# Altium integrated library Weidmueller_OMNIMATE_Housing.IntLib: 20 symbols
Pins are listed as number, name and electrical type; pins without a type are passive.

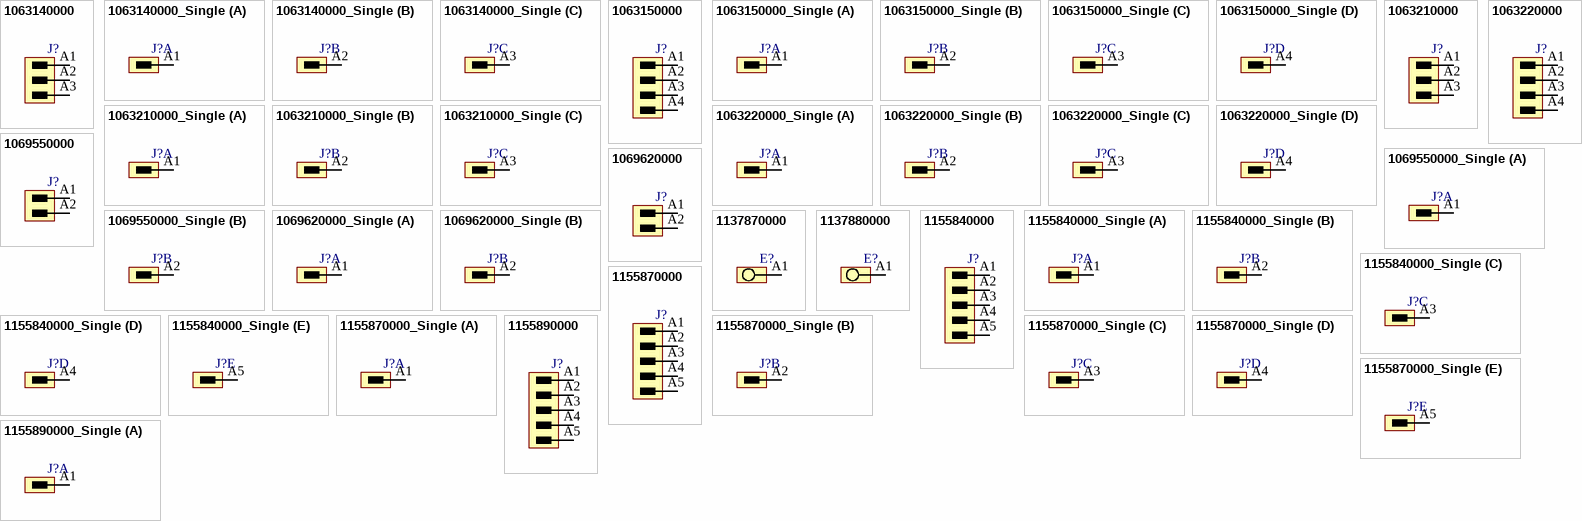
[diagram p0: symbols 1063140000 to 1155890000_Single]

## 1063140000
designator J?
OMNIMATE Housing - series CH20M; PartNumber: 1063140000; Manufacturer: Weidmueller; Short_text_for_material: SHL-SMT 5.00/03GR 1.5BX; Mounting_onto_the_PCB: Reflow solder connection; Pitch_mm: 5 mm; Pitch_inch: 0.197 inch; No_of_poles: 3; Outgoing_elbow: 90°; Solder_pin_length_mm: 1.5 mm; Contact_material: Cu-Leg; Contact_surface: tinned; Insulating_material: LCP; UL_94_flammability_rating: V-0; Rated_voltage_for_surge_voltage_class_pollution_degree_II_2: 400 V; Rated_voltage_use_group_B_UL_1059: 300 V; Rated_current_use_group_B_UL_1059: 9 A; PackageReference: SHL-SMT_5_00GR_03; Colour: Black; Packaging: Box; Qty: 120 PCS; Revision: V1; ComponentLink1Description: Manufacturer URL; ComponentLink1URL: http://www.weidmueller.com/; ComponentLink2Description: URL Link1; ComponentLink2URL: http://catalog.weidmueller.com/catalog/Start.do?localeId=en&ObjectID=1063140000
footprint SHL-SMT_5_00GR_03 (OMNIMATE Housing - Serie CH20M  SHL-SMT 5.00/03)
pins: A1, A2, A3

## 1063140000_Single
designator J?
OMNIMATE Housing - series CH20M; PartNumber: 1063140000; Manufacturer: Weidmueller; Short_text_for_material: SHL-SMT 5.00/03GR 1.5BX; Mounting_onto_the_PCB: Reflow solder connection; Pitch_mm: 5 mm; Pitch_inch: 0.197 inch; No_of_poles: 3; Outgoing_elbow: 90°; Solder_pin_length_mm: 1.5 mm; Contact_material: Cu-Leg; Contact_surface: tinned; Insulating_material: LCP; UL_94_flammability_rating: V-0; Rated_voltage_for_surge_voltage_class_pollution_degree_II_2: 400 V; Rated_voltage_use_group_B_UL_1059: 300 V; Rated_current_use_group_B_UL_1059: 9 A; PackageReference: SHL-SMT_5_00GR_03; Colour: Black; Packaging: Box; Qty: 120 PCS; Revision: V1; ComponentLink1Description: Manufacturer URL; ComponentLink1URL: http://www.weidmueller.com/; ComponentLink2Description: URL Link1; ComponentLink2URL: http://catalog.weidmueller.com/catalog/Start.do?localeId=en&ObjectID=1063140000
footprint SHL-SMT_5_00GR_03 (OMNIMATE Housing - Serie CH20M  SHL-SMT 5.00/03)
part A pins: A1
part B pins: A2
part C pins: A3

## 1063150000
designator J?
OMNIMATE Housing - series CH20M; PartNumber: 1063150000; Manufacturer: Weidmueller; Short_text_for_material: SHL-SMT 5.00/04GR 1.5BX; Mounting_onto_the_PCB: Reflow solder connection; Pitch_mm: 5 mm; Pitch_inch: 0.197 inch; No_of_poles: 4; Outgoing_elbow: 90°; Solder_pin_length_mm: 1.5 mm; Contact_material: Cu-Leg; Contact_surface: tinned; Insulating_material: LCP; UL_94_flammability_rating: V-0; Rated_voltage_for_surge_voltage_class_pollution_degree_II_2: 400 V; Rated_voltage_use_group_B_UL_1059: 300 V; Rated_current_use_group_B_UL_1059: 9 A; PackageReference: SHL-SMT_5_00GR_04; Colour: Black; Packaging: Box; Qty: 108 PCS; Revision: V1; ComponentLink1Description: Manufacturer URL; ComponentLink1URL: http://www.weidmueller.com/; ComponentLink2Description: URL Link1; ComponentLink2URL: http://catalog.weidmueller.com/catalog/Start.do?localeId=en&ObjectID=1063150000
footprint SHL-SMT_5_00GR_04 (OMNIMATE Housing - Serie CH20M  SHL-SMT 5.00/04GR 1.5)
pins: A1, A2, A3, A4

## 1063150000_Single
designator J?
OMNIMATE Housing - series CH20M; PartNumber: 1063150000; Manufacturer: Weidmueller; Short_text_for_material: SHL-SMT 5.00/04GR 1.5BX; Mounting_onto_the_PCB: Reflow solder connection; Pitch_mm: 5 mm; Pitch_inch: 0.197 inch; No_of_poles: 4; Outgoing_elbow: 90°; Solder_pin_length_mm: 1.5 mm; Contact_material: Cu-Leg; Contact_surface: tinned; Insulating_material: LCP; UL_94_flammability_rating: V-0; Rated_voltage_for_surge_voltage_class_pollution_degree_II_2: 400 V; Rated_voltage_use_group_B_UL_1059: 300 V; Rated_current_use_group_B_UL_1059: 9 A; PackageReference: SHL-SMT_5_00GR_04; Colour: Black; Packaging: Box; Qty: 108 PCS; Revision: V1; ComponentLink1Description: Manufacturer URL; ComponentLink1URL: http://www.weidmueller.com/; ComponentLink2Description: URL Link1; ComponentLink2URL: http://catalog.weidmueller.com/catalog/Start.do?localeId=en&ObjectID=1063150000
footprint SHL-SMT_5_00GR_04 (OMNIMATE Housing - Serie CH20M  SHL-SMT 5.00/04GR 1.5)
part A pins: A1
part B pins: A2
part C pins: A3
part D pins: A4

## 1063210000
designator J?
OMNIMATE Housing - series CH20M; PartNumber: 1063210000; Manufacturer: Weidmueller; Short_text_for_material: SHL-SMT 5.00/03GL 1.5BX; Mounting_onto_the_PCB: Reflow solder connection; Pitch_mm: 5 mm; Pitch_inch: 0.197 inch; No_of_poles: 3; Outgoing_elbow: 90°; Solder_pin_length_mm: 1.5 mm; Contact_material: Cu-Leg; Contact_surface: tinned; Insulating_material: LCP; UL_94_flammability_rating: V-0; Rated_voltage_for_surge_voltage_class_pollution_degree_II_2: 400 V; Rated_voltage_use_group_B_UL_1059: 300 V; Rated_current_use_group_B_UL_1059: 9 A; PackageReference: SHL-SMT_5_00GL_03; Colour: Black; Packaging: Box; Qty: 120 PCS; Revision: V1; ComponentLink1Description: Manufacturer URL; ComponentLink1URL: http://www.weidmueller.com/; ComponentLink2Description: URL Link1; ComponentLink2URL: http://catalog.weidmueller.com/catalog/Start.do?localeId=en&ObjectID=1063210000
footprint SHL-SMT_5_00GL_03 (OMNIMATE Housing - Serie CH20M  SHL-SMT 5.00/03)
pins: A1, A2, A3

## 1063210000_Single
designator J?
OMNIMATE Housing - series CH20M; PartNumber: 1063210000; Manufacturer: Weidmueller; Short_text_for_material: SHL-SMT 5.00/03GL 1.5BX; Mounting_onto_the_PCB: Reflow solder connection; Pitch_mm: 5 mm; Pitch_inch: 0.197 inch; No_of_poles: 3; Outgoing_elbow: 90°; Solder_pin_length_mm: 1.5 mm; Contact_material: Cu-Leg; Contact_surface: tinned; Insulating_material: LCP; UL_94_flammability_rating: V-0; Rated_voltage_for_surge_voltage_class_pollution_degree_II_2: 400 V; Rated_voltage_use_group_B_UL_1059: 300 V; Rated_current_use_group_B_UL_1059: 9 A; PackageReference: SHL-SMT_5_00GL_03; Colour: Black; Packaging: Box; Qty: 120 PCS; Revision: V1; ComponentLink1Description: Manufacturer URL; ComponentLink1URL: http://www.weidmueller.com/; ComponentLink2Description: URL Link1; ComponentLink2URL: http://catalog.weidmueller.com/catalog/Start.do?localeId=en&ObjectID=1063210000
footprint SHL-SMT_5_00GL_03 (OMNIMATE Housing - Serie CH20M  SHL-SMT 5.00/03)
part A pins: A1
part B pins: A2
part C pins: A3

## 1063220000
designator J?
OMNIMATE Housing - series CH20M; PartNumber: 1063220000; Manufacturer: Weidmueller; Short_text_for_material: SHL-SMT 5.00/04GL 1.5BX; Mounting_onto_the_PCB: Reflow solder connection; Pitch_mm: 5 mm; Pitch_inch: 0.197 inch; No_of_poles: 4; Outgoing_elbow: 90°; Solder_pin_length_mm: 1.5 mm; Contact_material: Cu-Leg; Contact_surface: tinned; Insulating_material: LCP; UL_94_flammability_rating: V-0; Rated_voltage_for_surge_voltage_class_pollution_degree_II_2: 400 V; Rated_voltage_use_group_B_UL_1059: 300 V; Rated_current_use_group_B_UL_1059: 9 A; PackageReference: SHL-SMT_5_00GL_04; Colour: Black; Packaging: Box; Qty: 108 PCS; Revision: V1; ComponentLink1Description: Manufacturer URL; ComponentLink1URL: http://www.weidmueller.com/; ComponentLink2Description: URL Link1; ComponentLink2URL: http://catalog.weidmueller.com/catalog/Start.do?localeId=en&ObjectID=1063220000
footprint SHL-SMT_5_00GL_04 (OMNIMATE Housing - Serie CH20M  SHL-SMT 5.00/04GL 1.5)
pins: A1, A2, A3, A4

## 1063220000_Single
designator J?
OMNIMATE Housing - series CH20M; PartNumber: 1063220000; Manufacturer: Weidmueller; Short_text_for_material: SHL-SMT 5.00/04GL 1.5BX; Mounting_onto_the_PCB: Reflow solder connection; Pitch_mm: 5 mm; Pitch_inch: 0.197 inch; No_of_poles: 4; Outgoing_elbow: 90°; Solder_pin_length_mm: 1.5 mm; Contact_material: Cu-Leg; Contact_surface: tinned; Insulating_material: LCP; UL_94_flammability_rating: V-0; Rated_voltage_for_surge_voltage_class_pollution_degree_II_2: 400 V; Rated_voltage_use_group_B_UL_1059: 300 V; Rated_current_use_group_B_UL_1059: 9 A; PackageReference: SHL-SMT_5_00GL_04; Colour: Black; Packaging: Box; Qty: 108 PCS; Revision: V1; ComponentLink1Description: Manufacturer URL; ComponentLink1URL: http://www.weidmueller.com/; ComponentLink2Description: URL Link1; ComponentLink2URL: http://catalog.weidmueller.com/catalog/Start.do?localeId=en&ObjectID=1063220000
footprint SHL-SMT_5_00GL_04 (OMNIMATE Housing - Serie CH20M  SHL-SMT 5.00/04GL 1.5)
part A pins: A1
part B pins: A2
part C pins: A3
part D pins: A4

## 1069550000
designator J?
OMNIMATE Housing - series CH20M; PartNumber: 1069550000; Manufacturer: Weidmueller; Short_text_for_material: SHL-SMT 5.00/02GR 1.5BX; Mounting_onto_the_PCB: Reflow solder connection; Pitch_mm: 5 mm; Pitch_inch: 0.197 inch; No_of_poles: 2; Outgoing_elbow: 90°; Solder_pin_length_mm: 4.2 mm; Contact_material: Cu-Leg; Contact_surface: tinned; Insulating_material: LCP; UL_94_flammability_rating: V-0; Rated_voltage_for_surge_voltage_class_pollution_degree_II_2: 400 V; Rated_voltage_use_group_B_UL_1059: 300 V; Rated_current_use_group_B_UL_1059: 9 A; PackageReference: SHL-SMT_5_00GR_02; Colour: Black; Packaging: Box; Qty: 156 PCS; Revision: V1; ComponentLink1Description: Manufacturer URL; ComponentLink1URL: http://www.weidmueller.com/; ComponentLink2Description: URL Link1; ComponentLink2URL: http://catalog.weidmueller.com/catalog/Start.do?localeId=en&ObjectID=1069550000
footprint SHL-SMT_5_00GR_02 (OMNIMATE Housing - Serie CH20M  SHL-SMT 5.00/02GR)
pins: A1, A2

## 1069550000_Single
designator J?
OMNIMATE Housing - series CH20M; PartNumber: 1069550000; Manufacturer: Weidmueller; Short_text_for_material: SHL-SMT 5.00/02GR 1.5BX; Mounting_onto_the_PCB: Reflow solder connection; Pitch_mm: 5 mm; Pitch_inch: 0.197 inch; No_of_poles: 2; Outgoing_elbow: 90°; Solder_pin_length_mm: 4.2 mm; Contact_material: Cu-Leg; Contact_surface: tinned; Insulating_material: LCP; UL_94_flammability_rating: V-0; Rated_voltage_for_surge_voltage_class_pollution_degree_II_2: 400 V; Rated_voltage_use_group_B_UL_1059: 300 V; Rated_current_use_group_B_UL_1059: 9 A; PackageReference: SHL-SMT_5_00GR_02; Colour: Black; Packaging: Box; Qty: 156 PCS; Revision: V1; ComponentLink1Description: Manufacturer URL; ComponentLink1URL: http://www.weidmueller.com/; ComponentLink2Description: URL Link1; ComponentLink2URL: http://catalog.weidmueller.com/catalog/Start.do?localeId=en&ObjectID=1069550000
footprint SHL-SMT_5_00GR_02 (OMNIMATE Housing - Serie CH20M  SHL-SMT 5.00/02GR)
part A pins: A1
part B pins: A2

## 1069620000
designator J?
OMNIMATE Housing - series CH20M; PartNumber: 1069620000; Manufacturer: Weidmueller; Short_text_for_material: SHL-SMT 5.00/02GL 1.5BX; Mounting_onto_the_PCB: Reflow solder connection; Pitch_mm: 5 mm; Pitch_inch: 0.197 inch; No_of_poles: 2; Outgoing_elbow: 90°; Solder_pin_length_mm: 4.2 mm; Contact_material: Cu-Leg; Contact_surface: tinned; Insulating_material: LCP; UL_94_flammability_rating: V-0; Rated_voltage_for_surge_voltage_class_pollution_degree_II_2: 400 V; Rated_voltage_use_group_B_UL_1059: 300 V; Rated_current_use_group_B_UL_1059: 9 A; PackageReference: SHL-SMT_5_00GL_02; Colour: Black; Packaging: Box; Qty: 156 PCS; Revision: V1; ComponentLink1Description: Manufacturer URL; ComponentLink1URL: http://www.weidmueller.com/; ComponentLink2Description: URL Link1; ComponentLink2URL: http://catalog.weidmueller.com/catalog/Start.do?localeId=en&ObjectID=1069620000
footprint SHL-SMT_5_00GL_02 (OMNIMATE Housing - Serie CH20M  SHL-SMT 5.00/02GL)
pins: A1, A2

## 1069620000_Single
designator J?
OMNIMATE Housing - series CH20M; PartNumber: 1069620000; Manufacturer: Weidmueller; Short_text_for_material: SHL-SMT 5.00/02GL 1.5BX; Mounting_onto_the_PCB: Reflow solder connection; Pitch_mm: 5 mm; Pitch_inch: 0.197 inch; No_of_poles: 2; Outgoing_elbow: 90°; Solder_pin_length_mm: 4.2 mm; Contact_material: Cu-Leg; Contact_surface: tinned; Insulating_material: LCP; UL_94_flammability_rating: V-0; Rated_voltage_for_surge_voltage_class_pollution_degree_II_2: 400 V; Rated_voltage_use_group_B_UL_1059: 300 V; Rated_current_use_group_B_UL_1059: 9 A; PackageReference: SHL-SMT_5_00GL_02; Colour: Black; Packaging: Box; Qty: 156 PCS; Revision: V1; ComponentLink1Description: Manufacturer URL; ComponentLink1URL: http://www.weidmueller.com/; ComponentLink2Description: URL Link1; ComponentLink2URL: http://catalog.weidmueller.com/catalog/Start.do?localeId=en&ObjectID=1069620000
footprint SHL-SMT_5_00GL_02 (OMNIMATE Housing - Serie CH20M  SHL-SMT 5.00/02GL)
part A pins: A1
part B pins: A2

## 1137870000
designator E?
OMNIMATE Housing - series CH20M6; PartNumber: 1137870000; Manufacturer: Weidmueller; Short_text_for_material: LHZ-SMT L 1.5SN BK BX; Side_termination_characteristic: closed side; Mounting_onto_the_PCB: Reflow solder connection; No_of_poles: 1; Solder_pin_length_mm: 1,5 mm; Contact_surface: tinned; Insulating_material: LCP; UL_94_flammability_rating: V-0; Rated_voltage_for_surge_voltage_class_pollution_degree_II_2: 500 V; Solid_min_H05_07_V_U: 0,2 mm²; Solid_max_H05_07_V_U: 2,5 mm²; PackageReference: LHZ-SMT_L_01; Colour: Black; Packaging: Box; Qty: 306 PCS; Revision: V1; ComponentLink1Description: Manufacturer URL; ComponentLink1URL: http://www.weidmueller.com/; ComponentLink2Description: URL Link1; ComponentLink2URL: http://catalog.weidmueller.com/catalog/Start.do?localeId=en&ObjectID=1137870000
footprint LHZ-SMT_L_01 (OMNIMATE Housing - Serie CH20M6  LHZ-SMT R 1.5)
pins: A1
1 alternate drawing of the same symbol

## 1137880000
designator E?
OMNIMATE Housing - series CH20M6; PartNumber: 1137880000; Manufacturer: Weidmueller; Short_text_for_material: LHZ-SMT R 1.5SN BK BX; Side_termination_characteristic: closed side; Mounting_onto_the_PCB: Reflow solder connection; No_of_poles: 1; Solder_pin_length_mm: 1,5 mm; Contact_surface: tinned; Insulating_material: LCP; UL_94_flammability_rating: V-0; Rated_voltage_for_surge_voltage_class_pollution_degree_II_2: 500 V; Solid_min_H05_07_V_U: 0,2 mm²; Solid_max_H05_07_V_U: 2,5 mm²; PackageReference: LHZ-SMT_R_01; Colour: Black; Packaging: Box; Qty: 306 PCS; Revision: V1; ComponentLink1Description: Manufacturer URL; ComponentLink1URL: http://www.weidmueller.com/; ComponentLink2Description: URL Link1; ComponentLink2URL: http://catalog.weidmueller.com/catalog/Start.do?localeId=en&ObjectID=1137880000
footprint LHZ-SMT_R_01 (OMNIMATE Housing - Serie CH20M6  LHZ-SMT R 1.5)
pins: A1
1 alternate drawing of the same symbol

## 1155840000
designator J?
OMNIMATE Housing - series CH20M6; PartNumber: 1155840000; Manufacturer: Weidmueller; Short_text_for_material: SR-SMD 4.50/05/90 AU BK BX; Mounting_onto_the_PCB: Reflow solder connection; Pitch_mm: 5 mm; Pitch_inch: 0.197 inch; No_of_poles: 5; Outgoing_elbow: 180°; Solder_pin_length_mm: 4.5 mm; Contact_surface: Gold-plated; Insulating_material: LCP; PackageReference: SR-SMD_4_50_90_05; Colour: Black; Packaging: Box; Qty: 78 PCS; Revision: V1; ComponentLink1Description: Manufacturer URL; ComponentLink1URL: http://www.weidmueller.com/; ComponentLink2Description: URL Link1; ComponentLink2URL: http://catalog.weidmueller.com/catalog/Start.do?localeId=en&ObjectID=1155840000
footprint SR-SMD_4_50_90_05 (OMNIMATE Housing - Serie CH20M6  SR-SMD 4.50/05/90)
pins: A1, A2, A3, A4, A5

## 1155840000_Single
designator J?
OMNIMATE Housing - series CH20M6; PartNumber: 1155840000; Manufacturer: Weidmueller; Short_text_for_material: SR-SMD 4.50/05/90 AU BK BX; Mounting_onto_the_PCB: Reflow solder connection; Pitch_mm: 5 mm; Pitch_inch: 0.197 inch; No_of_poles: 5; Outgoing_elbow: 180°; Solder_pin_length_mm: 4.5 mm; Contact_surface: Gold-plated; Insulating_material: LCP; PackageReference: SR-SMD_4_50_90_05; Colour: Black; Packaging: Box; Qty: 78 PCS; Revision: V1; ComponentLink1Description: Manufacturer URL; ComponentLink1URL: http://www.weidmueller.com/; ComponentLink2Description: URL Link1; ComponentLink2URL: http://catalog.weidmueller.com/catalog/Start.do?localeId=en&ObjectID=1155840000
footprint SR-SMD_4_50_90_05 (OMNIMATE Housing - Serie CH20M6  SR-SMD 4.50/05/90)
part A pins: A1
part B pins: A2
part C pins: A3
part D pins: A4
part E pins: A5

## 1155870000
designator J?
OMNIMATE Housing - series CH20M; PartNumber: 1155870000; Manufacturer: Weidmueller; Short_text_for_material: SR-SMD 4.50/05/90LFM 3.2AU BK BX; Side_termination_characteristic: Middle solder flange; Mounting_onto_the_PCB: Reflow solder connection; Pitch_mm: 5 mm; Pitch_inch: 0.197 inch; No_of_poles: 5; Outgoing_elbow: 180°; Solder_pin_length_mm: 4.5 mm; Contact_surface: Gold-plated; Insulating_material: LCP; PackageReference: SR-SMD_4_50_90LFM_05; Colour: Black; Packaging: Box; Qty: 78 PCS; Revision: V1; ComponentLink1Description: Manufacturer URL; ComponentLink1URL: http://www.weidmueller.com/; ComponentLink2Description: URL Link1; ComponentLink2URL: http://catalog.weidmueller.com/catalog/Start.do?localeId=en&ObjectID=1155870000
footprint SR-SMD_4_50_90LFM_05 (OMNIMATE Housing - Serie CH20M  SR-SMD 4.50/05/90LFM 3.2)
pins: A1, A2, A3, A4, A5

## 1155870000_Single
designator J?
OMNIMATE Housing - series CH20M; PartNumber: 1155870000; Manufacturer: Weidmueller; Short_text_for_material: SR-SMD 4.50/05/90LFM 3.2AU BK BX; Side_termination_characteristic: Middle solder flange; Mounting_onto_the_PCB: Reflow solder connection; Pitch_mm: 5 mm; Pitch_inch: 0.197 inch; No_of_poles: 5; Outgoing_elbow: 180°; Solder_pin_length_mm: 4.5 mm; Contact_surface: Gold-plated; Insulating_material: LCP; PackageReference: SR-SMD_4_50_90LFM_05; Colour: Black; Packaging: Box; Qty: 78 PCS; Revision: V1; ComponentLink1Description: Manufacturer URL; ComponentLink1URL: http://www.weidmueller.com/; ComponentLink2Description: URL Link1; ComponentLink2URL: http://catalog.weidmueller.com/catalog/Start.do?localeId=en&ObjectID=1155870000
footprint SR-SMD_4_50_90LFM_05 (OMNIMATE Housing - Serie CH20M  SR-SMD 4.50/05/90LFM 3.2)
part A pins: A1
part B pins: A2
part C pins: A3
part D pins: A4
part E pins: A5

## 1155890000
designator J?
OMNIMATE Housing - series CH20M; PartNumber: 1155890000; Manufacturer: Weidmueller; Short_text_for_material: SR-SMD 4.50/05/90LF 1.5AU BK BX; Side_termination_characteristic: Solder flange; Mounting_onto_the_PCB: Reflow solder connection; Pitch_mm: 5 mm; Pitch_inch: 0.197 inch; No_of_poles: 5; Outgoing_elbow: 180°; Solder_pin_length_mm: 4.5 mm; Contact_surface: Gold-plated; Insulating_material: LCP; PackageReference: SR-SMD_4_50_90LF_05; Colour: Black; Packaging: Box; Qty: 78 PCS; Revision: V1; ComponentLink1Description: Manufacturer URL; ComponentLink1URL: http://www.weidmueller.com/; ComponentLink2Description: URL Link1; ComponentLink2URL: http://catalog.weidmueller.com/catalog/Start.do?localeId=en&ObjectID=1155890000
footprint SR-SMD_4_50_90LF_05 (OMNIMATE Housing - Serie CH20M  SR-SMD 4.50/05/90LF 1.5)
pins: A1, A2, A3, A4, A5

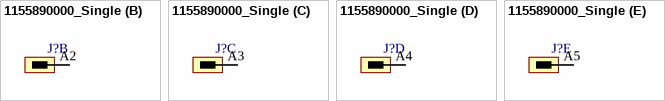
[diagram p1: symbol 1155890000_Single]

## 1155890000_Single
designator J?
OMNIMATE Housing - series CH20M; PartNumber: 1155890000; Manufacturer: Weidmueller; Short_text_for_material: SR-SMD 4.50/05/90LF 1.5AU BK BX; Side_termination_characteristic: Solder flange; Mounting_onto_the_PCB: Reflow solder connection; Pitch_mm: 5 mm; Pitch_inch: 0.197 inch; No_of_poles: 5; Outgoing_elbow: 180°; Solder_pin_length_mm: 4.5 mm; Contact_surface: Gold-plated; Insulating_material: LCP; PackageReference: SR-SMD_4_50_90LF_05; Colour: Black; Packaging: Box; Qty: 78 PCS; Revision: V1; ComponentLink1Description: Manufacturer URL; ComponentLink1URL: http://www.weidmueller.com/; ComponentLink2Description: URL Link1; ComponentLink2URL: http://catalog.weidmueller.com/catalog/Start.do?localeId=en&ObjectID=1155890000
footprint SR-SMD_4_50_90LF_05 (OMNIMATE Housing - Serie CH20M  SR-SMD 4.50/05/90LF 1.5)
part A pins: A1
part B pins: A2
part C pins: A3
part D pins: A4
part E pins: A5